# Altium schematic symbol library SCH - ARM CORTEX - STM STM8L152R8Tx.SchLib: 1 symbol
Pins are listed as number, name and electrical type; pins without a type are passive.

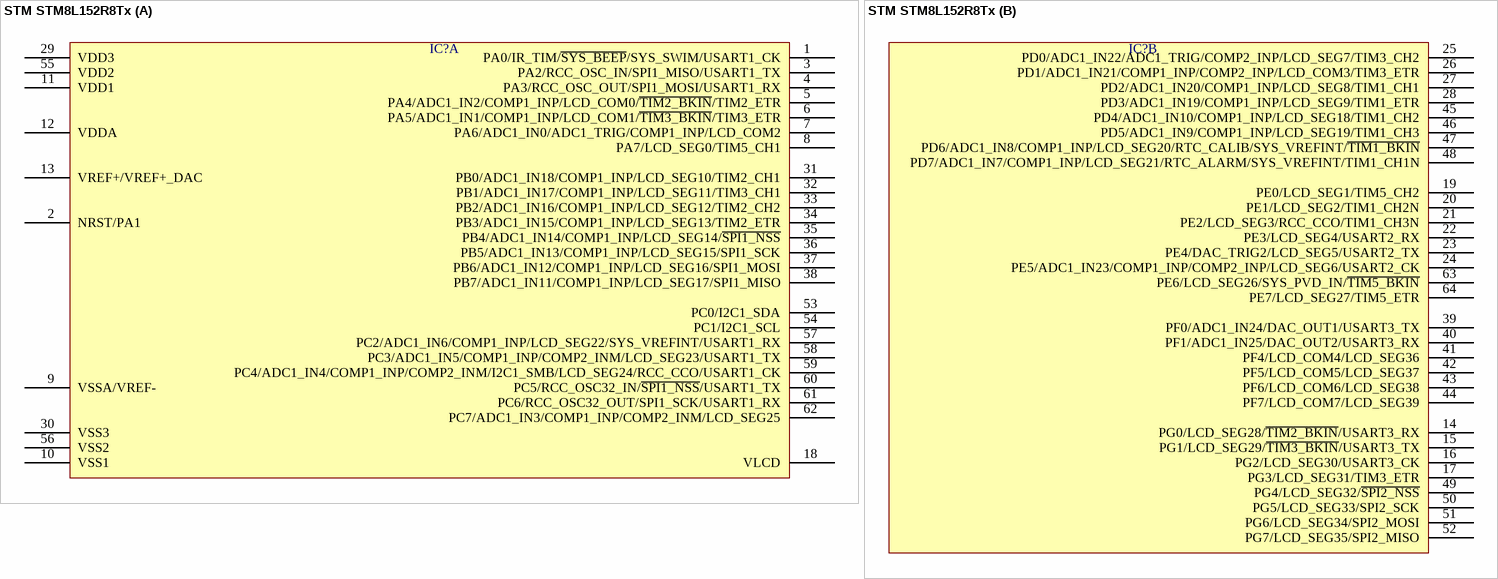
[diagram p0: symbol STM STM8L152R8Tx]

## STM STM8L152R8Tx
designator IC?  (value not drawn)
part A pins: 1 PA0/IR_TIM/~{SYS_BEEP}/SYS_SWIM/USART1_CK, 2 NRST/PA1, 3 PA2/RCC_OSC_IN/SPI1_MISO/USART1_TX, 4 PA3/RCC_OSC_OUT/SPI1_MOSI/USART1_RX, 5 PA4/ADC1_IN2/COMP1_INP/LCD_COM0/~{TIM2_BKIN}/TIM2_ETR, 6 PA5/ADC1_IN1/COMP1_INP/LCD_COM1/~{TIM3_BKIN}/TIM3_ETR, 7 PA6/ADC1_IN0/ADC1_TRIG/COMP1_INP/LCD_COM2, 8 PA7/LCD_SEG0/TIM5_CH1, 9 VSSA/VREF-, 10 VSS1, 11 VDD1, 12 VDDA, 13 VREF+/VREF+_DAC, 18 VLCD, 29 VDD3, 30 VSS3, 31 PB0/ADC1_IN18/COMP1_INP/LCD_SEG10/TIM2_CH1, 32 PB1/ADC1_IN17/COMP1_INP/LCD_SEG11/TIM3_CH1, 33 PB2/ADC1_IN16/COMP1_INP/LCD_SEG12/TIM2_CH2, 34 PB3/ADC1_IN15/COMP1_INP/LCD_SEG13/TIM2_ETR, 35 PB4/ADC1_IN14/COMP1_INP/LCD_SEG14/~{SPI1_NSS}, 36 PB5/ADC1_IN13/COMP1_INP/LCD_SEG15/SPI1_SCK, 37 PB6/ADC1_IN12/COMP1_INP/LCD_SEG16/SPI1_MOSI, 38 PB7/ADC1_IN11/COMP1_INP/LCD_SEG17/SPI1_MISO, 53 PC0/I2C1_SDA, 54 PC1/I2C1_SCL, 55 VDD2, 56 VSS2, 57 PC2/ADC1_IN6/COMP1_INP/LCD_SEG22/SYS_VREFINT/USART1_RX, 58 PC3/ADC1_IN5/COMP1_INP/COMP2_INM/LCD_SEG23/USART1_TX, 59 PC4/ADC1_IN4/COMP1_INP/COMP2_INM/I2C1_SMB/LCD_SEG24/RCC_CCO/USART1_CK, 60 PC5/RCC_OSC32_IN/~{SPI1_NSS}/USART1_TX, 61 PC6/RCC_OSC32_OUT/SPI1_SCK/USART1_RX, 62 PC7/ADC1_IN3/COMP1_INP/COMP2_INM/LCD_SEG25
part B pins: 14 PG0/LCD_SEG28/~{TIM2_BKIN}/USART3_RX, 15 PG1/LCD_SEG29/~{TIM3_BKIN}/USART3_TX, 16 PG2/LCD_SEG30/USART3_CK, 17 PG3/LCD_SEG31/TIM3_ETR, 19 PE0/LCD_SEG1/TIM5_CH2, 20 PE1/LCD_SEG2/TIM1_CH2N, 21 PE2/LCD_SEG3/RCC_CCO/TIM1_CH3N, 22 PE3/LCD_SEG4/USART2_RX, 23 PE4/DAC_TRIG2/LCD_SEG5/USART2_TX, 24 PE5/ADC1_IN23/COMP1_INP/COMP2_INP/LCD_SEG6/USART2_CK, 25 PD0/ADC1_IN22/ADC1_TRIG/COMP2_INP/LCD_SEG7/TIM3_CH2, 26 PD1/ADC1_IN21/COMP1_INP/COMP2_INP/LCD_COM3/TIM3_ETR, 27 PD2/ADC1_IN20/COMP1_INP/LCD_SEG8/TIM1_CH1, 28 PD3/ADC1_IN19/COMP1_INP/LCD_SEG9/TIM1_ETR, 39 PF0/ADC1_IN24/DAC_OUT1/USART3_TX, 40 PF1/ADC1_IN25/DAC_OUT2/USART3_RX, 41 PF4/LCD_COM4/LCD_SEG36, 42 PF5/LCD_COM5/LCD_SEG37, 43 PF6/LCD_COM6/LCD_SEG38, 44 PF7/LCD_COM7/LCD_SEG39, 45 PD4/ADC1_IN10/COMP1_INP/LCD_SEG18/TIM1_CH2, 46 PD5/ADC1_IN9/COMP1_INP/LCD_SEG19/TIM1_CH3, 47 PD6/ADC1_IN8/COMP1_INP/LCD_SEG20/RTC_CALIB/SYS_VREFINT/~{TIM1_BKIN}, 48 PD7/ADC1_IN7/COMP1_INP/LCD_SEG21/RTC_ALARM/SYS_VREFINT/TIM1_CH1N, 49 PG4/LCD_SEG32/~{SPI2_NSS}, 50 PG5/LCD_SEG33/SPI2_SCK, 51 PG6/LCD_SEG34/SPI2_MOSI, 52 PG7/LCD_SEG35/SPI2_MISO, 63 PE6/LCD_SEG26/SYS_PVD_IN/~{TIM5_BKIN}, 64 PE7/LCD_SEG27/TIM5_ETR